# Altium footprint library Darkside_Lib.PcbLib: 57 footprints (part 4 of 4)
Each footprint in its own frame and in the unit in brackets; x right, y up, seen from the top. Pads: shape width x height; smd on the part's side, far side on the other; paste and mask are expansions set on the pad; w line width, h text height; cw(c..) or ccw(c..) is an arc to the next point about the centre after c.
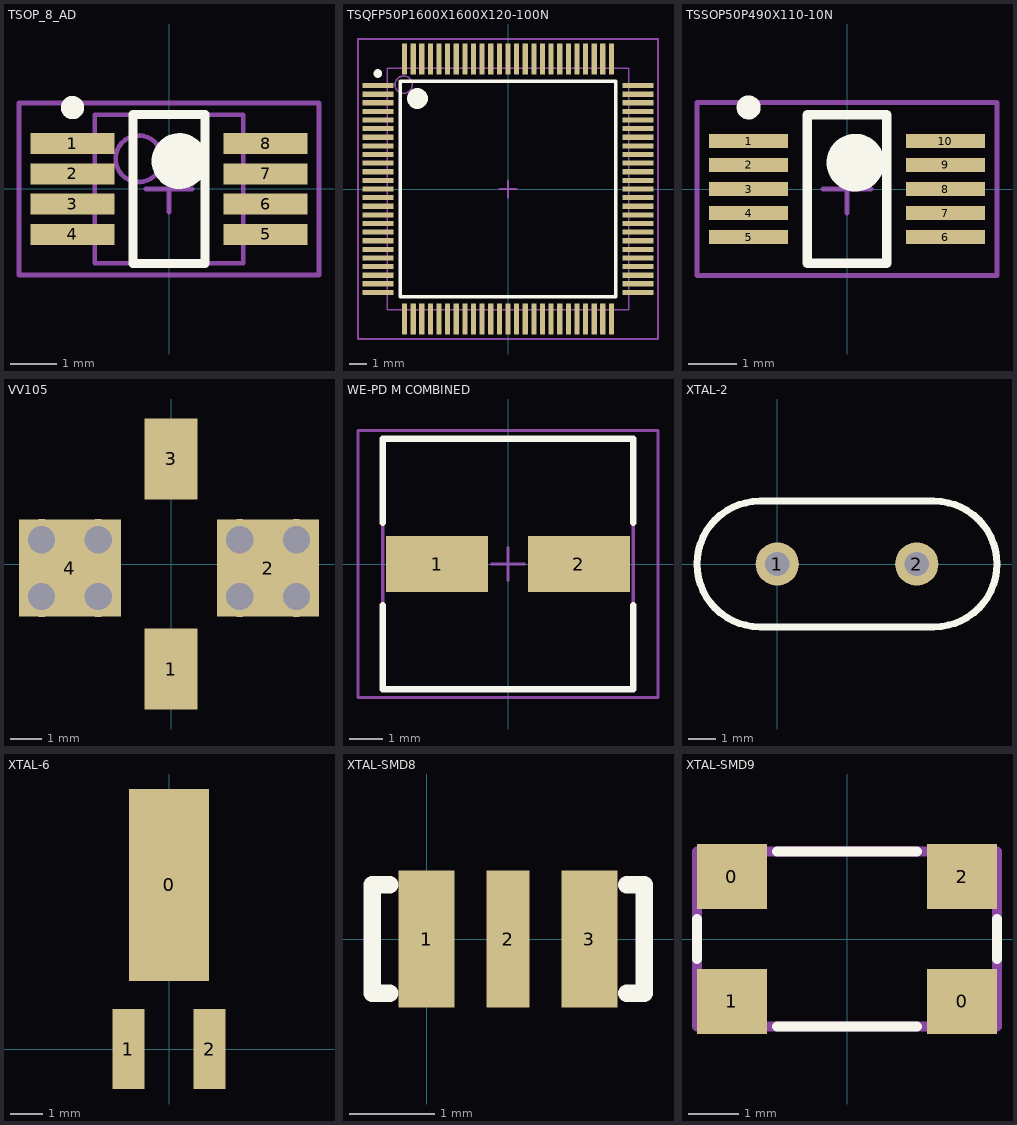
[diagram p3: the footprints below, top view; thin cyan lines are the x and y axes]

## TSOP_8_AD [mm] "TSOP, 8-Leads, Body 3.2x3.2mm (max), Pitch 0.65mm, IPC Medium Density"
height 1.1
pads (8):
  rect 1.8x0.45 smd: 1(-2.075,0.975) 2(-2.075,0.325) 3(-2.075,-0.325) 4(-2.075,-0.975) 5(2.075,-0.975) 6(2.075,-0.325) 7(2.075,0.325) 8(2.075,0.975)
Top Overlay:
  circle w0.6: c0.225,0.6 r0.3
  circle w0.25: c-2.075,1.75 r0.125
  lines w0.2: -0.775,-1.6 0.775,-1.6 0.775,1.6 -0.775,1.6 -0.775,-1.6
Mechanical 13:
  circle w0.1: c-0.65,0.65 r0.5
  lines w0.1: -1.6,-1.6 1.6,-1.6 1.6,1.6 -1.6,1.6 -1.6,-1.6
Mechanical 15:
  lines w0.1: -0.5,0 0.5,0 ; 0,-0.5 0,0.5 ; -3.225,-1.85 3.225,-1.85 3.225,1.85 -3.225,1.85 -3.225,-1.85
3D body: height 1.1, standoff 0, extent -1.6,-1.6 1.6,1.6

## TSQFP50P1600X1600X120-100N [mm] "TSQFP, 100-Leads, Body 16.3x16.3mm (max), Pitch 0.50mm, IPC Medium Density"
height 1.2
pads (100):
  rect 1.8x0.3 smd: 1(-7.55,6) 2(-7.55,5.5) 3(-7.55,5) 4(-7.55,4.5) 5(-7.55,4) 6(-7.55,3.5) 7(-7.55,3) 8(-7.55,2.5) 9(-7.55,2) 10(-7.55,1.5) 11(-7.55,1) 12(-7.55,0.5) 13(-7.55,0) 14(-7.55,-0.5) 15(-7.55,-1) 16(-7.55,-1.5) 17(-7.55,-2) 18(-7.55,-2.5) 19(-7.55,-3) 20(-7.55,-3.5) 21(-7.55,-4) 22(-7.55,-4.5) 23(-7.55,-5) 24(-7.55,-5.5) 25(-7.55,-6) 51(7.55,-6) 52(7.55,-5.5) 53(7.55,-5) 54(7.55,-4.5) 55(7.55,-4) 56(7.55,-3.5) 57(7.55,-3) 58(7.55,-2.5) 59(7.55,-2) 60(7.55,-1.5) 61(7.55,-1) 62(7.55,-0.5) 63(7.55,0) 64(7.55,0.5) 65(7.55,1) 66(7.55,1.5) 67(7.55,2) 68(7.55,2.5) 69(7.55,3) 70(7.55,3.5) 71(7.55,4) 72(7.55,4.5) 73(7.55,5) 74(7.55,5.5) 75(7.55,6)
  rect 0.3x1.8 smd: 26(-6,-7.55) 27(-5.5,-7.55) 28(-5,-7.55) 29(-4.5,-7.55) 30(-4,-7.55) 31(-3.5,-7.55) 32(-3,-7.55) 33(-2.5,-7.55) 34(-2,-7.55) 35(-1.5,-7.55) 36(-1,-7.55) 37(-0.5,-7.55) 38(0,-7.55) 39(0.5,-7.55) 40(1,-7.55) 41(1.5,-7.55) 42(2,-7.55) 43(2.5,-7.55) 44(3,-7.55) 45(3.5,-7.55) 46(4,-7.55) 47(4.5,-7.55) 48(5,-7.55) 49(5.5,-7.55) 50(6,-7.55) 76(6,7.55) 77(5.5,7.55) 78(5,7.55) 79(4.5,7.55) 80(4,7.55) 81(3.5,7.55) 82(3,7.55) 83(2.5,7.55) 84(2,7.55) 85(1.5,7.55) 86(1,7.55) 87(0.5,7.55) 88(0,7.55) 89(-0.5,7.55) 90(-1,7.55) 91(-1.5,7.55) 92(-2,7.55) 93(-2.5,7.55) 94(-3,7.55) 95(-3.5,7.55) 96(-4,7.55) 97(-4.5,7.55) 98(-5,7.55) 99(-5.5,7.55) 100(-6,7.55)
Top Overlay:
  circle w0.6: c-5.25,5.25 r0.3
  circle w0.25: c-7.55,6.7 r0.125
  lines w0.2: -6.25,-6.25 6.25,-6.25 6.25,6.25 -6.25,6.25 -6.25,-6.25
Mechanical 13:
  circle w0.1: c-6.05,6.05 r0.5
  lines w0.1: -7,-7 7,-7 7,7 -7,7 -7,-7
Mechanical 15:
  lines w0.1: -0.5,0 0.5,0 ; 0,-0.5 0,0.5 ; -8.7,-8.7 8.7,-8.7 8.7,8.7 -8.7,8.7 -8.7,-8.7
3D body: height 1.2, standoff 0.05, extent -7,-7 7,7

## TSSOP50P490X110-10N [mm] "TSSOP, 10-Leads, Body 3.1x3.1mm (max), Pitch 0.50mm, IPC Medium Density"
height 1.1
pads (10):
  rect 1.65x0.3 smd: 1(-2.05,1) 2(-2.05,0.5) 3(-2.05,0) 4(-2.05,-0.5) 5(-2.05,-1) 6(2.05,-1) 7(2.05,-0.5) 8(2.05,0) 9(2.05,0.5) 10(2.05,1)
Top Overlay:
  circle w0.25: c-2.05,1.7 r0.125
  circle w0.6: c0.175,0.55 r0.3
  lines w0.2: -0.825,-1.55 -0.825,1.55 0.825,1.55 0.825,-1.55 -0.825,-1.55
Mechanical 15:
  lines w0.1: -0.5,0 0.5,0 ; 0,-0.5 0,0.5 ; -3.125,-1.8 -3.125,1.8 3.125,1.8 3.125,-1.8 -3.125,-1.8

## VV105 [mil]
pads (4):
  rect 66x100 smd: 1(0,-130) 3(0,130)
  rect 126x120 smd: 2(120,-5) 4(-125,-5)
via 155,-40 diameter 51.18 hole 33.46
via 85,-40 diameter 51.18 hole 33.46
via 155,30 diameter 51.18 hole 33.46
via 85,30 diameter 51.18 hole 33.46
via -160,-40 diameter 51.18 hole 33.46
via -160,30 diameter 51.18 hole 33.46
via -90,30 diameter 51.18 hole 33.46
via -90,-40 diameter 51.18 hole 33.46

## WE-PD M COMBINED [mm] "SMD Inductor, 2-Leads, Body 7,3x7,3mm"
height 4.5
pads (2):
  rect 3.1x1.7 smd: 1(-2.15,0) 2(2.15,0)
Top Overlay:
  lines w0.2: -3.8,-1.25 -3.8,-3.8 3.8,-3.8 3.8,-1.25 ; -3.8,1.25 -3.8,3.8 3.8,3.8 3.8,1.25
Mechanical 13:
  lines w0.1: -3.8,-3.8 -3.8,3.8 3.8,3.8 3.8,-3.8 -3.8,-3.8
Mechanical 15:
  lines w0.1: -0.5,0 0.5,0 ; 0,-0.5 0,0.5 ; -4.55,-4.05 -4.55,4.05 4.55,4.05 4.55,-4.05 -4.55,-4.05
3D body: height 4.09, standoff -0.01, extent -3.65,-3.65 3.65,3.65

## XTAL-2 [mil]
pads (2):
  round 62 hole 35: 1(0,0) 2(200,0)
Top Overlay:
  lines w10: -25,-90 cw(c-25,0) -25,90 225,90 cw(c225,0) 225,-90 -25,-90

## XTAL-6 [mm]
pads (3):
  rect 2.5x6 smd: 0(0,5.125)
  rect 1x2.5 smd: 1(-1.27,0) 2(1.27,0)

## XTAL-SMD8 [mm]
pads (3):
  rect 0.65x1.6 smd: 1(0,0) 3(1.9,0)
  rect 0.5x1.6 smd: 2(0.95,0)
Top Overlay:
  lines w0.203: -0.432,-0.635 -0.635,-0.635 -0.635,0.635 -0.432,0.635 ; 2.337,-0.635 2.54,-0.635 2.54,0.635 2.337,0.635

## XTAL-SMD9 [mm]
pads (4):
  rect 1.4x1.3 smd: 0(-2.3,1.25) 0(2.3,-1.25) 1(-2.3,-1.25) 2(2.3,1.25)
Top Overlay:
  lines w0.203: -3,-0.4 -3,0.4 ; -1.4,-1.75 1.4,-1.75 ; -1.4,1.75 1.4,1.75 ; 3,-0.4 3,0.4
Mechanical 1:
  lines w0.203: -3,-1.75 -3,1.75 3,1.75 3,-1.75 -3,-1.75